# EAGLE library part ADXL377 (library KwanSystems)
Analog high-G 3-axis accelerometer
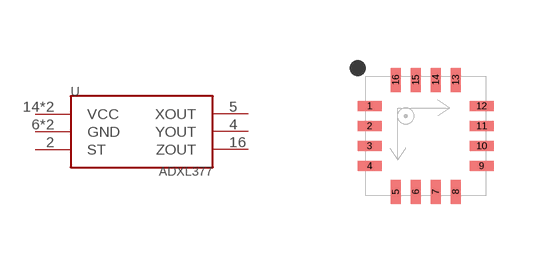
[diagram p19: symbol with the pads of ADXL377; footprint ADXL377]

Designator prefix -

## ADXL377  [ADXL377]
2  ST
4  YOUT
5  XOUT
6  GND
7  GND
14  VCC
15  VCC
16  ZOUT

## Footprint ADXL377 (pad centres in mm)
smd 0.6 x 0.25: 1 -1.4,0.75; 2 -1.4,0.25; 3 -1.4,-0.25; 4 -1.4,-0.75; 9 1.4,-0.75; 10 1.4,-0.25; 11 1.4,0.25; 12 1.4,0.75
smd 0.25 x 0.6: 5 -0.75,-1.4; 6 -0.25,-1.4; 7 0.25,-1.4; 8 0.75,-1.4; 13 0.75,1.4; 14 0.25,1.4; 15 -0.25,1.4; 16 -0.75,1.4